# EAGLE library part LED8 (library Zach)
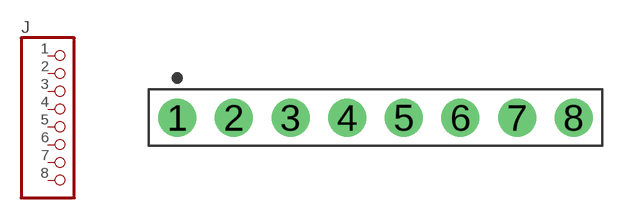
[diagram p6: symbol with the pads of LED8; footprint LED8]

Designator prefix J

## LED8  [LED8]
1  1  pas
2  2  pas
3  3  pas
4  4  pas
5  5  pas
6  6  pas
7  7  pas
8  8  pas

## Footprint LED8 (pad centres in mm)
Single-row, 8-pin Pin Header (Male) Straight, 2.54 mm (0.10 in) col pitch, 5.84 mm mating length, 20.32 X 2.54 X 8.38 mm body Single-row (1X8), 8-pin Pin Header (Male) Straight package with 2.54 mm (0.10 in) col pitch, 0.64 mm lead width, 3.00 mm tail length and 5.84 mm mating length with overall size 20.32 X 2.54 X 8.38 mm, pin pattern - clockwise from top left
drill 1.105 pad 1.705: 1 0,0; 2 2.54,0; 3 5.08,0; 4 7.62,0; 5 10.16,0; 6 12.7,0; 7 15.24,0; 8 17.78,0